# Altium schematic symbol library MainBoard_Lib.SchLib: 5 symbols
Pins are listed as number, name and electrical type; pins without a type are passive.

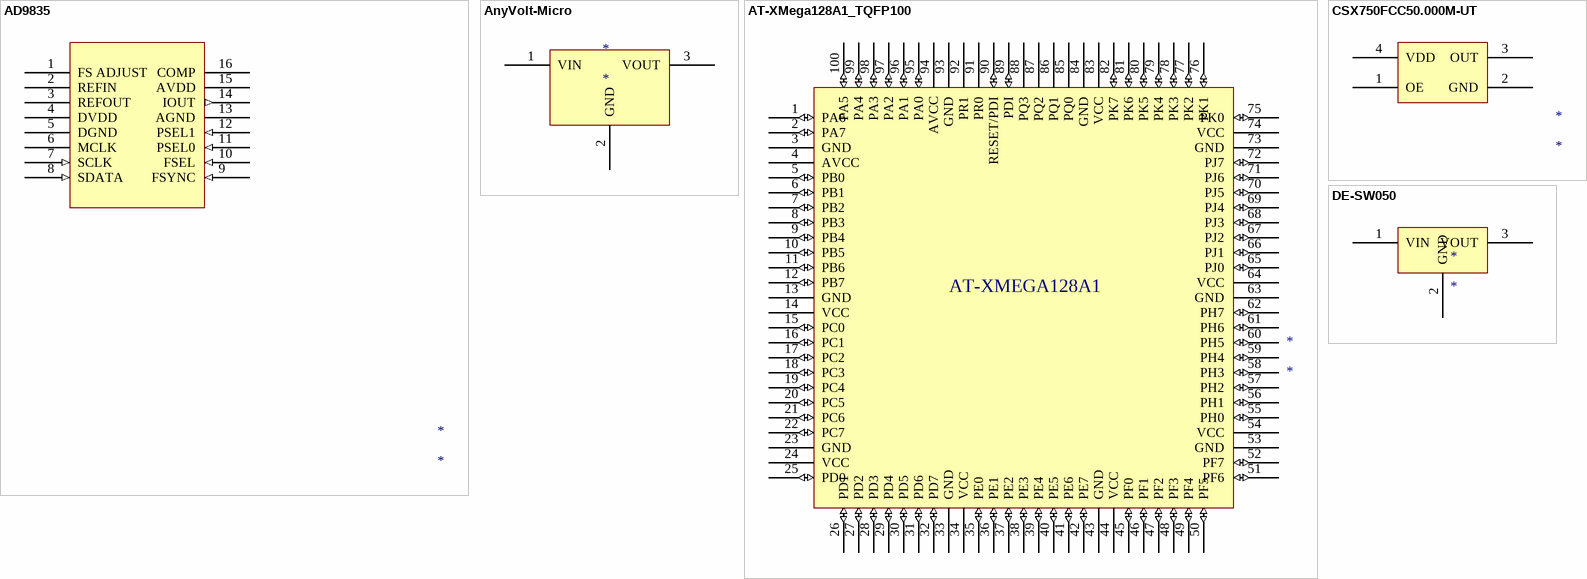
[diagram p0: symbols AD9835 to DE-SW050]

## AD9835
designator *
footprint TSSOP16 (Shrink Small Outline; 16 Leads; Body Width 4.4 mm; Pitch 0.65 mm)
pins: 1 FS ADJUST, 2 REFIN, 3 REFOUT, 4 DVDD (power), 5 DGND (power), 6 MCLK, 7 SCLK (in), 8 SDATA (in), 9 FSYNC (in), 10 FSEL (in), 11 PSEL0 (in), 12 PSEL1 (in), 13 AGND (power), 14 IOUT (out), 15 AVDD (power), 16 COMP

## AnyVolt-Micro
designator *
footprint TO-220 (TO, Thru-Hole, Vertical, Heatsink Mounted; 3 In-Line Leads; Pitch 2.54 mm)
pins: 1 VIN (power), 2 GND (power), 3 VOUT (power)

## AT-XMega128A1_TQFP100
designator *
footprint TQFP100_L (100-Pin Plastic Thin Quad Flat Pack (TQFP100), IPC High Density)
pins: 1 PA6 (io), 2 PA7 (io), 3 GND (power), 4 AVCC (power), 5 PB0 (io), 6 PB1 (io), 7 PB2 (io), 8 PB3 (io), 9 PB4 (io), 10 PB5 (io), 11 PB6 (io), 12 PB7 (io), 13 GND (power), 14 VCC (power), 15 PC0 (io), 16 PC1 (io), 17 PC2 (io), 18 PC3 (io), 19 PC4 (io), 20 PC5 (io), 21 PC6 (io), 22 PC7 (io), 23 GND (power), 24 VCC (power), 25 PD0 (io), 26 PD1 (io), 27 PD2 (io), 28 PD3 (io), 29 PD4 (io), 30 PD5 (io), 31 PD6 (io), 32 PD7 (io), 33 GND (power), 34 VCC (power), 35 PE0 (io), 36 PE1 (io), 37 PE2 (io), 38 PE3 (io), 39 PE4 (io), 40 PE5 (io), 41 PE6 (io), 42 PE7 (io), 43 GND (power), 44 VCC (power), 45 PF0 (io), 46 PF1 (io), 47 PF2 (io), 48 PF3 (io), 49 PF4 (io), 50 PF5 (io), 51 PF6 (io), 52 PF7 (io), 53 GND (power), 54 VCC (power), 55 PH0 (io), 56 PH1 (io), 57 PH2 (io), 58 PH3 (io), 59 PH4 (io), 60 PH5 (io), 61 PH6 (io), 62 PH7 (io), 63 GND (power), 64 VCC (power), 65 PJ0 (io), 66 PJ1 (io), 67 PJ2 (io), 68 PJ3 (io), 69 PJ4 (io), 70 PJ5 (io), 71 PJ6 (io), 72 PJ7 (io), 73 GND (power), 74 VCC (power), 75 PK0 (io), 76 PK1 (io), 77 PK2 (io), 78 PK3 (io), 79 PK4 (io), 80 PK5 (io), 81 PK6 (io), 82 PK7 (io), 83 VCC (power), 84 GND (power), 85 PQ0, 86 PQ1, 87 PQ2, 88 PQ3, 89 PDI (io), 90 RESET/PDI (io), 91 PR0, 92 PR1, 93 GND (power), 94 AVCC (power), 95 PA0 (io), 96 PA1 (io), 97 PA2 (io), 98 PA3 (io), 99 PA4 (io), 100 PA5 (io)
text: AT-XMEGA128A1

## CSX750FCC50.000M-UT
designator *
footprint CSX750
pins: 1 OE, 2 GND, 3 OUT, 4 VDD

## DE-SW050
designator *
footprint TO-220 (TO, Thru-Hole, Vertical, Heatsink Mounted; 3 In-Line Leads; Pitch 2.54 mm)
pins: 1 VIN (power), 2 GND (power), 3 VOUT (power)